# EAGLE library part MCP73833 (library microchip-priv)
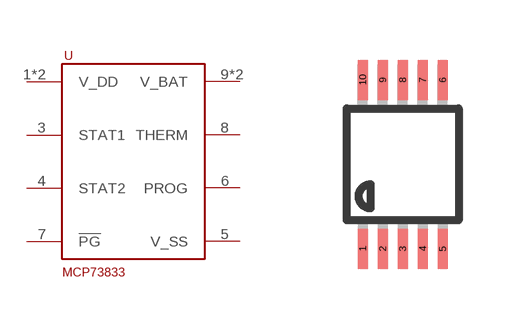
[diagram p0: symbol with the pads of MSOP10; footprint MSOP10]

Designator prefix -

## MCP73833MSOP10  [MSOP10]
1  V_DD  pwr
2  V_DD  pwr
3  STAT1  oc
4  STAT2  oc
5  V_SS  pwr
6  PROG
7  !PG  oc
8  THERM
9  V_BAT  sup
10  V_BAT  sup

## Footprint MSOP10 (pad centres in mm)
10-Lead Mini Small Outline Package [MSOP] (RM-10) Source: http://www.analog.com/UploadedFiles/Data_Sheets/35641221898805SSM2167_b.pdf COMPLIANT TO JEDEC STANDARDS MO-187BA
smd 0.25 x 1: 1 -1,-2.113; 2 -0.5,-2.113; 3 0,-2.113; 4 0.5,-2.113; 5 1,-2.113; 6 1,2.113; 7 0.5,2.113; 8 0,2.113; 9 -0.5,2.113; 10 -1,2.113